# Altium schematic symbol library BAT54x Family.SchLib: 4 symbols
Pins are listed as number, name and electrical type; pins without a type are passive.

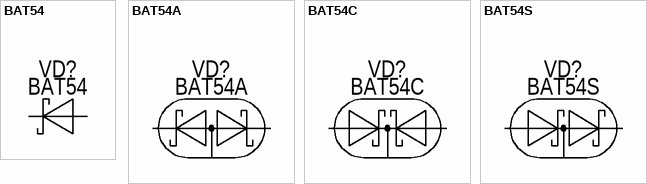
[diagram p0: symbols BAT54 to BAT54S]

## BAT54
designator VD?, comment Model: BAT54  (hidden comment: Single and Double Schottky Diodes)
Small Signal Single Schottky Diodes 200 mA, 30V; Manufacture: Vishay; Supplier 1: Mouser; Supplier Part Number 1: 78-BAT54-E3-08; Case: SOT23-3; ComponentLink1Description: BAT54; ComponentLink1URL: http://www.vishay.com/docs/85508/bat54.pdf
footprint SOT23-3
pins: 1 Anode, 3 Cathode
1 alternate drawing of the same symbol

## BAT54A
designator VD?, comment Model: BAT54A  (hidden comment: Dual Common Anode Schottky Diodes)
Small Signal Dual Common Anode Schottky Diodes 200 mA, 30V; Manufacture: Vishay; Supplier 1: Mouser; Supplier Part Number 1: 78-BAT54-E3-08; Case: SOT23-3; ComponentLink1Description: BAT54; ComponentLink1URL: http://www.vishay.com/docs/85508/bat54.pdf
footprint SOT23-3
pins: 1 First Diod Cathode, 2 Second Diod Cathode, 3 Common Anode

## BAT54C
designator VD?, comment Model: BAT54C  (hidden comment: Dual Common Cathode Schottky Diodes)
Small Signal Dual Common Cathode Schottky Diodes 200 mA, 30V; Manufacture: Vishay; Supplier 1: Mouser; Supplier Part Number 1: 78-BAT54-E3-08; Case: SOT23-3; ComponentLink1Description: BAT54; ComponentLink1URL: http://www.vishay.com/docs/85508/bat54.pdf
footprint SOT23-3
pins: 1 First Diod Anode, 2 Second Diod Anode, 3 Common Cathode

## BAT54S
designator VD?, comment Model: BAT54S  (hidden comment: Dual Serial Schottky Diodes)
Small Signal Dual Serial Schottky Diodes 200 mA, 30V; Manufacture: Vishay; Supplier 1: Mouser; Supplier Part Number 1: 78-BAT54-E3-08; Case: SOT23-3; ComponentLink1Description: BAT54; ComponentLink1URL: http://www.vishay.com/docs/85508/bat54.pdf
footprint SOT23-3
pins: 1 First Diod Anode, 2 Second Diod Cathode, 3 Middle Point  "Connect Cathode  to Anode Point"